# Altium schematic symbol library SCH - POWER - SWITCHMODE - TI TPS65218D0PHP.SchLib: 1 symbol
Pins are listed as number, name and electrical type; pins without a type are passive.

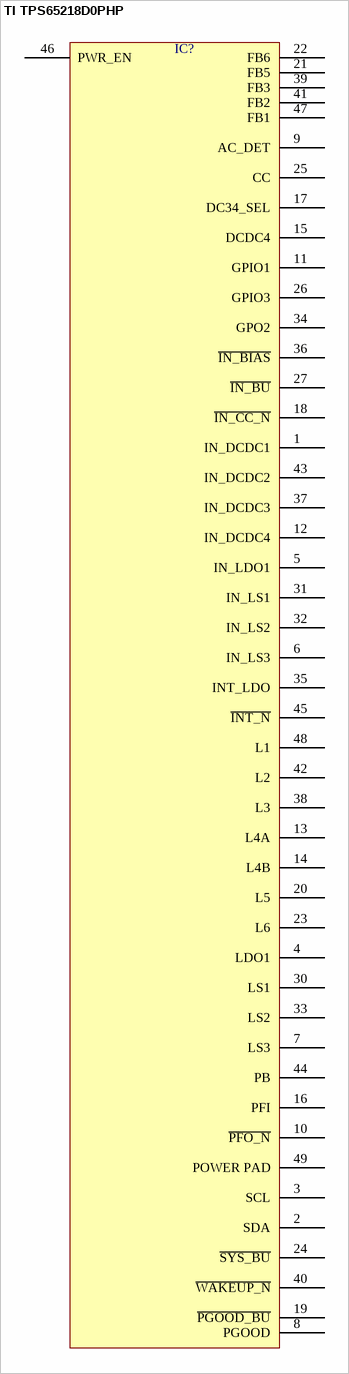
[diagram p0: symbol TI TPS65218D0PHP]

## TI TPS65218D0PHP
designator IC?  (value not drawn)
pins: 1 IN_DCDC1, 2 SDA, 3 SCL, 4 LDO1, 5 IN_LDO1, 6 IN_LS3, 7 LS3, 8 PGOOD, 9 AC_DET, 10 ~{PFO_N}, 11 GPIO1, 12 IN_DCDC4, 13 L4A, 14 L4B, 15 DCDC4, 16 PFI, 17 DC34_SEL, 18 ~{IN_CC_N}, 19 ~{PGOOD_BU}, 20 L5, 21 FB5, 22 FB6, 23 L6, 24 ~{SYS_BU}, 25 CC, 26 GPIO3, 27 ~{IN_BU}, 30 LS1, 31 IN_LS1, 32 IN_LS2, 33 LS2, 34 GPO2, 35 INT_LDO, 36 ~{IN_BIAS}, 37 IN_DCDC3, 38 L3, 39 FB3, 40 ~{WAKEUP_N}, 41 FB2, 42 L2, 43 IN_DCDC2, 44 PB, 45 ~{INT_N}, 46 PWR_EN, 47 FB1, 48 L1, 49 POWER PAD